# EAGLE library part ARDUINO_PRO_MICRO (library Keyboard Parts Library v52)
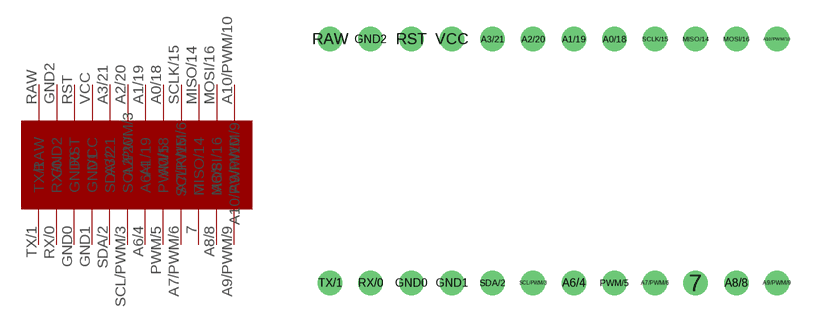
[diagram p0: symbol with the pads of ARDUINO_PRO_MICRO; footprint ARDUINO_PRO_MICRO]

Designator prefix -

## ARDUINO_PRO_MICRO  [ARDUINO_PRO_MICRO]
7  7
A0/18  A0/18
A1/19  A1/19
A2/20  A2/20
A3/21  A3/21
A6/4  A6/4
A7/PWM/6  A7/PWM/6
A8/8  A8/8
A9/PWM/9  A9/PWM/9
A10/PWM/10  A10/PWM/10
GND0  GND0
GND1  GND1
GND2  GND2
MISO/14  MISO/14
MOSI/16  MOSI/16
PWM/5  PWM/5
RAW  RAW
RST  RST
RX/0  RX/0
SCL/PWM/3  SCL/PWM/3
SCLK/15  SCLK/15
SDA/2  SDA/2
TX/1  TX/1
VCC  VCC

## Footprint ARDUINO_PRO_MICRO (pad centres in mm)
drill 1: 7 22.5,0; A0/18 17.5,15; A1/19 15,15; A2/20 12.5,15; A3/21 10,15; A6/4 15,0; A7/PWM/6 20,0; A8/8 25,0; A9/PWM/9 27.5,0; A10/PWM/10 27.5,15; GND0 5,0; GND1 7.5,0; GND2 2.5,15; MISO/14 22.5,15; MOSI/16 25,15; PWM/5 17.5,0; RAW 0,15; RST 5,15; RX/0 2.5,0; SCL/PWM/3 12.5,0; SCLK/15 20,15; SDA/2 10,0; TX/1 0,0; VCC 7.5,15